# EAGLE library part MAX-485 (library UNIT_Biblioteca_Modulos)
MAX-485 Source: Datasheet <https://uelectronics.com/wp-content/uploads/2018/08/MAX485ESA-T-Datasheet.pdf> SKU: Propietario: UNIT Electronics Desarrollador: Alberto Villanueva
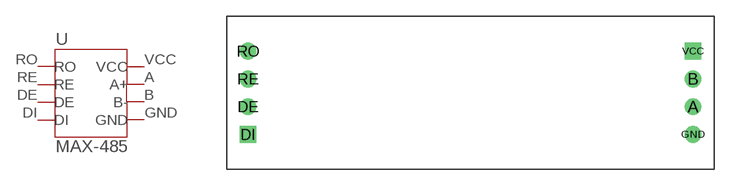
[diagram p20: symbol with the pads of MAX-485; footprint MAX-485]

Designator prefix U

## MAX-485 (CLASS: Modules; DESCRIPTION: Convertidor TTL a RS485; VENDOR_PART_NUMBER: AR0594; VENDOR_PRICE-STOCK: https://uelectronics.com/producto/convertidor-ttl-a-rs485/)  [MAX-485]
A  A+
B  B-
DE  DE
DI  DI
GND  GND
RE  RE
RO  RO
VCC  VCC

## Footprint MAX-485 (pad centres in mm)
drill 1.02: A 20.32,-1.27; B 20.32,1.27; DE -20.32,-1.27; GND 20.32,-3.81; RE -20.32,1.27; RO -20.32,3.81
drill 1.02 square: DI -20.32,-3.81; VCC 20.32,3.81